# Altium schematic symbol library CPLD.SchLib: 3 symbols
Pins are listed as number, name and electrical type; pins without a type are passive.

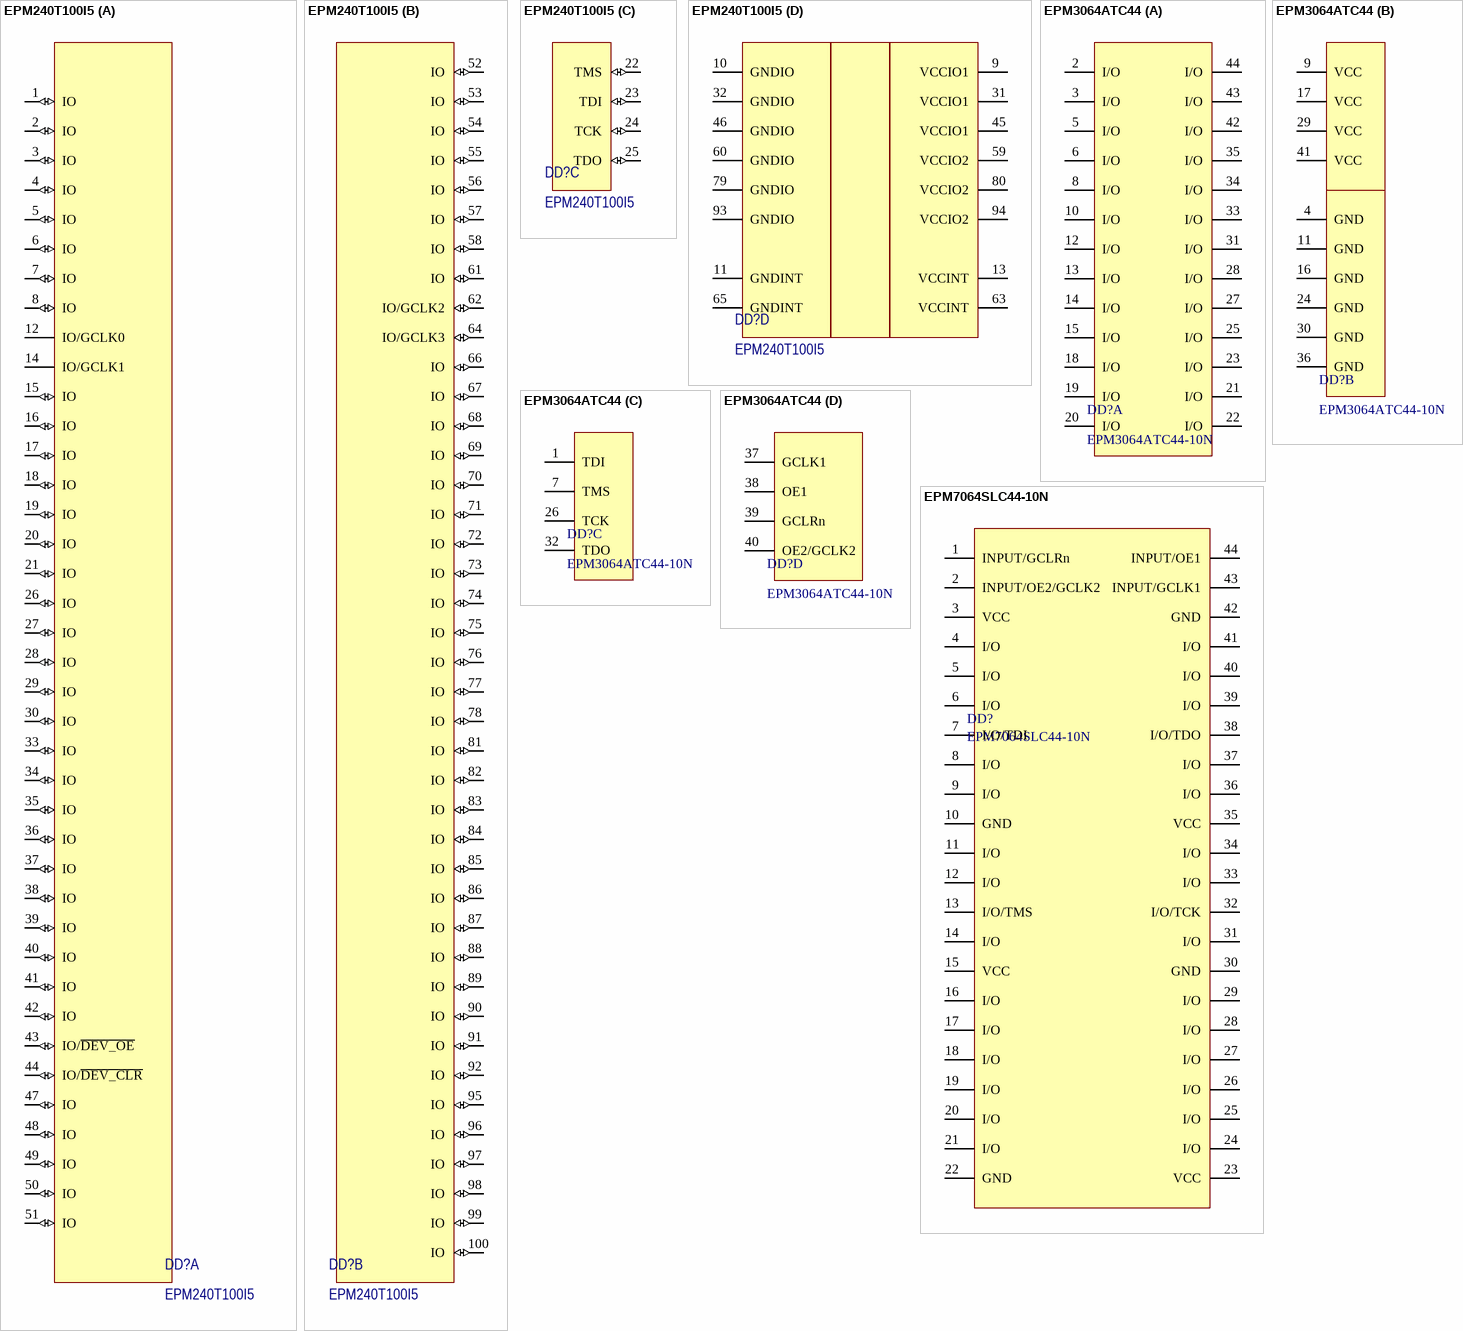
[diagram p0: symbols EPM240T100I5 to EPM7064SLC44-10N]

## EPM240T100I5
designator DD?
IC CPLD 192MC 4.7NS 100TQFP; Manufacturer: Altera; ManufacturerPartNumber: EPM240T100I5; ComponentLink1URL: https://www.altera.com/content/dam/altera-www/global/en_US/pdfs/literature/hb/max2/max2_mii51006.pdf; ComponentLink1Description: https://www.altera.com/content/dam/altera-www/global/en_US/pdfs/literature/hb/max2/max2_mii51006.pdf; Note: *; Price: *; Supplier: *
footprint TQFP100_EPM240T100I5 (TSQFP, 100-Leads, Body 14,00x14,00mm, Pitch 0,50mm, IPC Medium Density)
part A pins: 1 IO (io), 2 IO (io), 3 IO (io), 4 IO (io), 5 IO (io), 6 IO (io), 7 IO (io), 8 IO (io), 12 IO/GCLK0, 14 IO/GCLK1, 15 IO (io), 16 IO (io), 17 IO (io), 18 IO (io), 19 IO (io), 20 IO (io), 21 IO (io), 26 IO (io), 27 IO (io), 28 IO (io), 29 IO (io), 30 IO (io), 33 IO (io), 34 IO (io), 35 IO (io), 36 IO (io), 37 IO (io), 38 IO (io), 39 IO (io), 40 IO (io), 41 IO (io), 42 IO (io), 43 IO/~{DEV_OE} (io), 44 IO/~{DEV_CLR} (io), 47 IO (io), 48 IO (io), 49 IO (io), 50 IO (io), 51 IO (io)
part B pins: 52 IO (io), 53 IO (io), 54 IO (io), 55 IO (io), 56 IO (io), 57 IO (io), 58 IO (io), 61 IO (io), 62 IO/GCLK2 (io), 64 IO/GCLK3 (io), 66 IO (io), 67 IO (io), 68 IO (io), 69 IO (io), 70 IO (io), 71 IO (io), 72 IO (io), 73 IO (io), 74 IO (io), 75 IO (io), 76 IO (io), 77 IO (io), 78 IO (io), 81 IO (io), 82 IO (io), 83 IO (io), 84 IO (io), 85 IO (io), 86 IO (io), 87 IO (io), 88 IO (io), 89 IO (io), 90 IO (io), 91 IO (io), 92 IO (io), 95 IO (io), 96 IO (io), 97 IO (io), 98 IO (io), 99 IO (io), 100 IO (io)
part C pins: 22 TMS (io), 23 TDI (io), 24 TCK (io), 25 TDO (io)
part D pins: 9 VCCIO1, 10 GNDIO, 11 GNDINT, 13 VCCINT, 31 VCCIO1, 32 GNDIO, 45 VCCIO1, 46 GNDIO, 59 VCCIO2, 60 GNDIO, 63 VCCINT, 65 GNDINT, 79 GNDIO, 80 VCCIO2, 93 GNDIO, 94 VCCIO2

## EPM3064ATC44
designator DD?, comment EPM3064ATC44-10N
MAX 3000A, 64 MACROCELLS; Manufacturer: Altera; Description: ALTERA         EPM3064ATC44-10N            CPLD, MAX 3000A, 64 MACROCELLS, TQFP44; Number of Gates: 1250; Min Supply Voltage: 3V; Max Supply Voltage: 3.6V; Propagation Delay: 10ns; Frequency: 125MHz; Operating Supply Voltage: 3.3V; Speed Grade: 10; Number of I/Os: 34; Number of Logic Blocks (LABs): 4; Number of Macrocells: 64; Memory Type: EEPROM; Max Frequency: 222.2MHz; Supplier 1: Digi-Key; ManufacturerPartNumber: EPM3064ATC44-10N; Stock 1: 1163; Pricing 1: 1=2.93 (USD); Mount: Surface Mount; Case/Package: TQFP; Number of Pins: 44; Min Operating Temperature: 0°C; Max Operating Temperature: 70°C; Package Quantity: 160; Packaging: Tray; Turn-On Delay Time: 10ns; Number of Logic Elements/Cells: 4; Number of Programmable I/O: 34; Termination: SMD/SMT; Number of Inputs: 34; Length: 10mm; Height: 0.95mm; Width: 10mm; Radiation Hardening: No; Lead Free: Lead Free; REACH SVHC: Unknown; ComponentLink1URL: https://datasheet.ciiva.com/1407/m3000a-1407040.pdf; ComponentLink1Description: https://datasheet.ciiva.com/1407/m3000a-1407040.pdf; ComponentLink2URL: https://datasheet.ciiva.com/1152/134639-1152985.pdf; ComponentLink2Description: https://datasheet.ciiva.com/1152/134639-1152985.pdf; ComponentLink3URL: https://datasheet.ciiva.com/25922/m3000a-25922153.pdf; ComponentLink3Description: https://datasheet.ciiva.com/25922/m3000a-25922153.pdf; ComponentLink4URL: https://datasheet.ciiva.com/5702/m3000a-5702171.pdf; ComponentLink4Description: https://datasheet.ciiva.com/5702/m3000a-5702171.pdf; ComponentLink5URL: https://datasheet.ciiva.com/1152/134639-1152983.pdf; ComponentLink5Description: https://datasheet.ciiva.com/1152/134639-1152983.pdf; ComponentLink6URL: https://datasheet.ciiva.com/1161/m3000a-1161336.pdf; ComponentLink6Description: https://datasheet.ciiva.com/1161/m3000a-1161336.pdf; ComponentLink7URL: https://datasheet.ciiva.com/5702/m3000a-5702168.pdf; ComponentLink7Description: https://datasheet.ciiva.com/5702/m3000a-5702168.pdf; Supplier Part Number 1: 544-1977-ND
footprint TQFP80P1200X1230X120-44N (TQFP, 44-Leads, Body 10,00x10,00mm, Pitch 0,80mm, IPC Medium Density)
part A pins: 2 I/O, 3 I/O, 5 I/O, 6 I/O, 8 I/O, 10 I/O, 12 I/O, 13 I/O, 14 I/O, 15 I/O, 18 I/O, 19 I/O, 20 I/O, 21 I/O, 22 I/O, 23 I/O, 25 I/O, 27 I/O, 28 I/O, 31 I/O, 33 I/O, 34 I/O, 35 I/O, 42 I/O, 43 I/O, 44 I/O
part B pins: 4 GND, 9 VCC, 11 GND, 16 GND, 17 VCC, 24 GND, 29 VCC, 30 GND, 36 GND, 41 VCC
part C pins: 1 TDI, 7 TMS, 26 TCK, 32 TDO
part D pins: 37 GCLK1, 38 OE1, 39 GCLRn, 40 OE2/GCLK2

## EPM7064SLC44-10N
designator DD?
CPLD, MAX7000, 64 MACROCELLS, 44PLCC; Manufacturer: Altera; Propagation Delay: 10ns; Supply Voltage: 5V; Speed Grade: 10; Number of Logic Blocks (LABs): 4; Memory Type: EEPROM; Max Frequency: 175.4MHz; Number of I/Os: 36; Number of Gates: 1250; Max Supply Voltage: 5.25V; Min Supply Voltage: 4.75V; Nominal Supply Current: 110mA; Frequency: 125MHz; Number of Macrocells: 64; Supplier 1: Digikey; ManufacturerPartNumber: EPM7064SLC44-10N; Stock 1: 6717; Pricing 1: 1=9.66 (USD); Mount: Surface Mount; Case/Package: PLCC; Number of Pins: 44; Min Operating Temperature: 0°C; Max Operating Temperature: 70°C; Packaging: Rail/Tube; Package Quantity: 130; Number of Programmable I/O: 36; Number of Inputs: 36; Number of Outputs: 36; Number of Logic Elements/Cells: 4; Turn-On Delay Time: 10ns; Termination: SMD/SMT; Length: 16.59mm; Height: 3.81mm; Width: 16.59mm; Radiation Hardening: No; REACH SVHC: No SVHC; Lead Free: Lead Free; ComponentLink1URL: https://datasheet.ciiva.com/26806/epm7064slc44-10n-26806763.pdf; ComponentLink1Description: https://datasheet.ciiva.com/26806/epm7064slc44-10n-26806763.pdf; ComponentLink2URL: https://datasheet.ciiva.com/3251/m7000-3251369.pdf; ComponentLink2Description: https://datasheet.ciiva.com/3251/m7000-3251369.pdf; ComponentLink3URL: https://datasheet.ciiva.com/1153/m7000-1153106.pdf; ComponentLink3Description: https://datasheet.ciiva.com/1153/m7000-1153106.pdf; ComponentLink4URL: https://datasheet.ciiva.com/1407/m7000-1407204.pdf; ComponentLink4Description: https://datasheet.ciiva.com/1407/m7000-1407204.pdf; ComponentLink5URL: https://datasheet.ciiva.com/1161/m7000-1161512.pdf; ComponentLink5Description: https://datasheet.ciiva.com/1161/m7000-1161512.pdf; Supplier Part Number 1: 544-2012-ND
footprint PLCC-44 SOC
pins: 1 INPUT/GCLRn, 2 INPUT/OE2/GCLK2, 3 VCC, 4 I/O, 5 I/O, 6 I/O, 7 I/O/TDI, 8 I/O, 9 I/O, 10 GND, 11 I/O, 12 I/O, 13 I/O/TMS, 14 I/O, 15 VCC, 16 I/O, 17 I/O, 18 I/O, 19 I/O, 20 I/O, 21 I/O, 22 GND, 23 VCC, 24 I/O, 25 I/O, 26 I/O, 27 I/O, 28 I/O, 29 I/O, 30 GND, 31 I/O, 32 I/O/TCK, 33 I/O, 34 I/O, 35 VCC, 36 I/O, 37 I/O, 38 I/O/TDO, 39 I/O, 40 I/O, 41 I/O, 42 GND, 43 INPUT/GCLK1, 44 INPUT/OE1